# Altium schematic symbol library CRCW060373K2FKEA.SchLib: 1 symbol
Pins are listed as number, name and electrical type; pins without a type are passive.

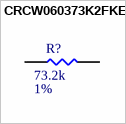
[diagram p0: symbol CRCW060373K2FKEA]

## CRCW060373K2FKEA
designator R?  Tolerance: 1%  Resistance: 73.2k  (hidden comment: CRCW060373K2FKEA)
Thick Film Resistors - SMD 1/10watt 73.2Kohms 1%; MFR: Vishay; Qualifications: AEC-Q200; PN: CRCW060373K2FKEA; ComponentLink1Description: Datasheet; ComponentLink1URL: https://www.mouser.ca/datasheet/2/427/dcrcwe3-1762152.pdf; Footprint: RES0603; Package: 0603; Supplier 1: Future Electronics; Supplier Part Number 1: 5103777
footprint RES0603 (Generic 0603)
pins: 1, 2